# Altium footprint library 68685-314LF.PcbLib: 1 footprints
Each footprint in its own frame and in the unit in brackets; x right, y up, seen from the top. Pads: shape width x height; smd on the part's side, far side on the other; paste and mask are expansions set on the pad; w line width, h text height; cw(c..) or ccw(c..) is an arc to the next point about the centre after c.
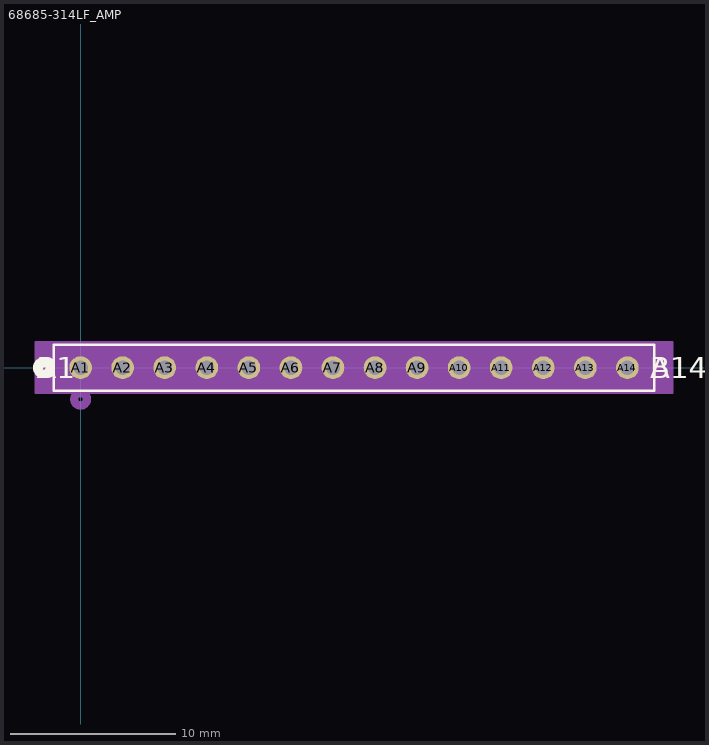
[diagram p0: the footprint, top view; thin cyan lines are the x and y axes]

## 68685-314LF_AMP [mil]
pads (14):
  round 54 / inner round 60 / far side round 54 hole 34 paste-27 mask+0: A1(0,0) A2(100,0) A3(200,0) A4(300,0) A5(400,0) A6(500,0) A7(600,0) A8(700,0) A9(800,0) A10(900,0) A11(1000,0) A12(1100,0) A13(1200,0) A14(1300,0)
Top Overlay:
  circle w20: c-88.5,0 r15
  lines w6: -63.5,-55 1363.5,-55 1363.5,55 -63.5,55 -63.5,-55
  text "A1" at -104,-25 h50
  text "B1" at -104,-25 h50
  text "A14" at 1354,-25 h50
  text "B14" at 1354,-25 h50
Bottom Overlay:
  circle w20: c-88.5,0 r15
  text "A1" at -54,-25 h50
  text "B1" at -54,-25 h50
  text "A14" at 1429,-25 h50
  text "B14" at 1429,-25 h50
Mechanical 13:
  circle w20: c0,-75 r15
  lines w1: -58.5,-50 1358.5,-50 1358.5,50 -58.5,50 -58.5,-50
  text "A1" at -104,-25 h50
  text "B1" at -104,-25 h50
  text "A14" at 1354,-25 h50
  text "B14" at 1354,-25 h50
Mechanical 15:
  region: 1406.5,60 -106.5,60 -106.5,-60 1406.5,-60
  region: 1358.5,50 -58.5,50 -58.5,-50 1358.5,-50
  lines w6: -106.5,-60 -106.5,60 1406.5,60 1406.5,-60 -106.5,-60
3D body: height 10, standoff 0, extent 0,0 10,10